# EAGLE library part STM32L151CB (library dawidkulpa_dev)
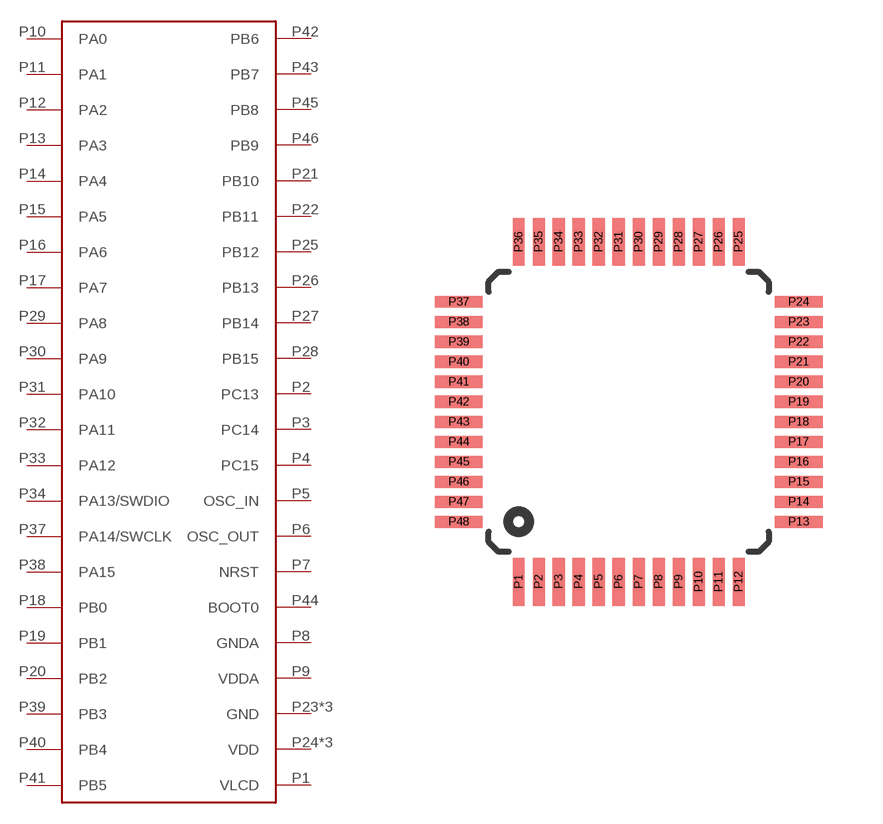
[diagram p18: symbol with the pads of LQFP48; footprint LQFP48]

Designator prefix -

## STM32L151CB  [LQFP48]
P1  VLCD
P2  PC13
P3  PC14
P4  PC15
P5  OSC_IN
P6  OSC_OUT
P7  NRST
P8  GNDA
P9  VDDA
P10  PA0
P11  PA1
P12  PA2
P13  PA3
P14  PA4
P15  PA5
P16  PA6
P17  PA7
P18  PB0
P19  PB1
P20  PB2
P21  PB10
P22  PB11
P23  GND
P24  VDD
P25  PB12
P26  PB13
P27  PB14
P28  PB15
P29  PA8
P30  PA9
P31  PA10
P32  PA11
P33  PA12
P34  PA13/SWDIO
P35  GND
P36  VDD
P37  PA14/SWCLK
P38  PA15
P39  PB3
P40  PB4
P41  PB5
P42  PB6
P43  PB7
P44  BOOT0
P45  PB8
P46  PB9
P47  GND
P48  VDD

## Footprint LQFP48 (pad centres in mm)
smd 0.3 x 1.2: P1 -2.75,-4.25; P2 -2.25,-4.25; P3 -1.75,-4.25; P4 -1.25,-4.25; P5 -0.75,-4.25; P6 -0.25,-4.25; P7 0.25,-4.25; P8 0.75,-4.25; P9 1.25,-4.25; P10 1.75,-4.25; P11 2.25,-4.25; P12 2.75,-4.25; P25 2.75,4.25; P26 2.25,4.25; P27 1.75,4.25; P28 1.25,4.25; P29 0.75,4.25; P30 0.25,4.25; P31 -0.25,4.25; P32 -0.75,4.25; P33 -1.25,4.25; P34 -1.75,4.25; P35 -2.25,4.25; P36 -2.75,4.25
smd 1.2 x 0.3: P13 4.25,-2.75; P14 4.25,-2.25; P15 4.25,-1.75; P16 4.25,-1.25; P17 4.25,-0.75; P18 4.25,-0.25; P19 4.25,0.25; P20 4.25,0.75; P21 4.25,1.25; P22 4.25,1.75; P23 4.25,2.25; P24 4.25,2.75; P37 -4.25,2.75; P38 -4.25,2.25; P39 -4.25,1.75; P40 -4.25,1.25; P41 -4.25,0.75; P42 -4.25,0.25; P43 -4.25,-0.25; P44 -4.25,-0.75; P45 -4.25,-1.25; P46 -4.25,-1.75; P47 -4.25,-2.25; P48 -4.25,-2.75